# EAGLE library part AD8045 (library opamps)
AD8045: Low distortion, high speed opamp (Analog Devices) ±5V, ±70mA, 6.3µA bias 1mV offset, 1GHz UGF, 3nV/rt(Hz) noise
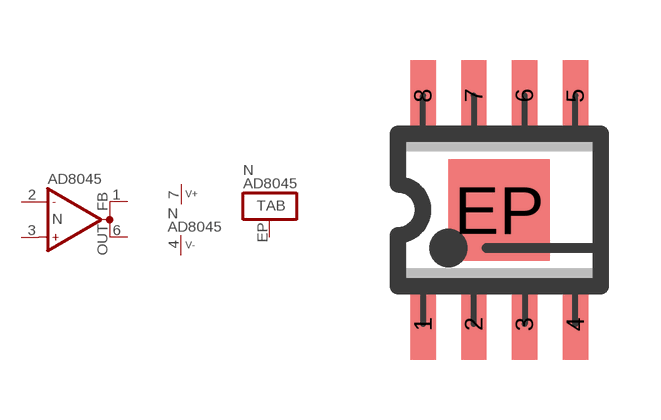
[diagram p284: symbol with the pads of SO08-EP2; footprint SO08-EP2]

Designator prefix N; gates A=OP-FDBK P=V+- T=TAB

## AD8045  [SO08-EP2]
1  A:FDBK  out
2  A:IN-  in
3  A:IN+  in
4  P:V-  pwr
6  A:OUT  out
7  P:V+  pwr
EP  T:TAB

## Footprint SO08-EP2 (pad centres in mm)
SO-8, SMD SOIC IC package, 8 pins, exposed pad
smd 0.635 x 1.778: 1 -1.905,-2.857; 2 -0.635,-2.857; 3 0.635,-2.857; 4 1.905,-2.857; 5 1.905,2.857; 6 0.635,2.857; 7 -0.635,2.857; 8 -1.905,2.857
smd 2.54 x 2.54: EP 0,0